# Altium schematic symbol library Schlib1.SchLib: 8 symbols
Pins are listed as number, name and electrical type; pins without a type are passive.

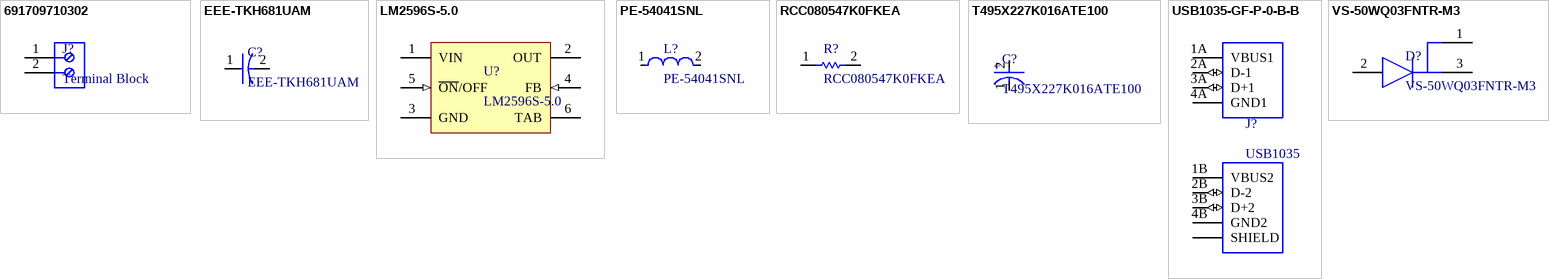
[diagram p0: symbols 691709710302 to VS-50WQ03FNTR-M3]

## 691709710302
designator J?, comment Terminal Block
Conn Terminal Block F 2 POS 5mm Solder RA SMD 6A T/R; Manufacturer: Wurth Electronics Midcom; Manufacturer Part Number: 691709710302; Plating: Steel; Voltage Rating: 300V; Number of Levels: 1; Number of Positions Per Level: 2; Connector Type: Screw; Wire Gauge (Max): 30AWG; Wire Gauge (Min): 14AWG; Pitch: 0.197inch; Supplier 1: Digi-Key; RoHS: Yes; Category: Terminal Blocks; Stock 1: 1256; Pricing 1: 1=2.89000, 10=2.56200, 50=2.41200, 100=2.26000 (USD); Mount: Surface Mount; Color: Black; Contact Plating: Tin; Housing Material: Nylon; Min Operating Temperature: -40°C; Max Operating Temperature: 115°C; Package Quantity: 1; Packaging: Tape and Reel; Current Rating: 6A; Current: 6A; Voltage: 300V; Termination: Screw; Number of Positions: 2; Number of Contacts: 2; Wire/Cable Gauge: 30AWG; REACH SVHC: Unknown; Flammability Rating: UL94 V-0; RoHS Compliant: Yes; ComponentLink1URL: http://www.mouser.com/ds/2/445/6917097103xx-271684.pdf?src-supplier=Mouser; ComponentLink1Description: http://www.mouser.com/ds/2/445/6917097103xx-271684.pdf?src-supplier=Mouser; ComponentLink2URL: http://katalog.we-online.de/em/datasheet/6917097103xx.pdf?src-supplier=Digi-Key; ComponentLink2Description: http://katalog.we-online.de/em/datasheet/6917097103xx.pdf?src-supplier=Digi-Key; ComponentLink3URL: https://katalog.we-online.de/em/datasheet/6917097103xx.pdf?src-supplier=Digi-Key; ComponentLink3Description: https://katalog.we-online.de/em/datasheet/6917097103xx.pdf?src-supplier=Digi-Key; ComponentLink4URL: http://www.farnell.com/cad/1804164.pdf?src-supplier=Element14; ComponentLink4Description: http://www.farnell.com/cad/1804164.pdf?src-supplier=Element14; Supplier Part Number 1: 1297-1108-1-ND
footprint Terminal Block
pins: 1, 2

## EEE-TKH681UAM
designator C?
Cap Aluminum Lytic 680uF 50V 20%( 16 X 16.5mm) SMD 0.15 Ohm 900mA 2000h 125C Automotive T/R; Manufacturer: Panasonic; ESR (Equivalent Series Resistance): 150mR; Life (Hours): 2000Hour; Leakage Current: 340uA; Polarity: Polar; Lead Diameter: 1.2mm; Manufacturer Part Number: EEE-TKH681UAM; RoHS: Yes; Category: Aluminum Electrolytic Capacitors; Pricing 1: 1=3.03000, 10=2.44800, 50=2.13660 (USD); Mount: Surface Mount; Case/Package: SMD/SMT; Number of Pins: 16; Min Operating Temperature: -40°C; Max Operating Temperature: 125°C; Capacitance: 680uF; Voltage Rating: 50V; Tolerance: 20%; Ripple Current: 900mA; Packaging: Tape and Reel; Package Quantity: 125; Ripple Current (AC): 900mA; Voltage Rating (DC): 50V; Termination: SMD/SMT; Voltage: 50V; Series: TK; Construction: Cylindrical; Diameter: 16mm; Length: 16.5mm; Height: 16.5mm; Lead Pitch: 6.7mm; Height - Seated (Max): 0.65inch; REACH SVHC: No SVHC; RoHS Compliant: Yes; ComponentLink1URL: https://datasheet.ciiva.com/11777/0900766b8102e63d-11777129.pdf?src-supplier=RSComponents; ComponentLink1Description: https://datasheet.ciiva.com/11777/0900766b8102e63d-11777129.pdf?src-supplier=RSComponents; ComponentLink2URL: https://datasheet.ciiva.com/43461/1843634-43461190.pdf?src-supplier=Farnell; ComponentLink2Description: https://datasheet.ciiva.com/43461/1843634-43461190.pdf?src-supplier=Farnell; ComponentLink3URL: https://datasheet.ciiva.com/46438/1843634-46438041.pdf?src-supplier=Element14; ComponentLink3Description: https://datasheet.ciiva.com/46438/1843634-46438041.pdf?src-supplier=Element14; ComponentLink4URL: https://datasheet.ciiva.com/24036/aba0000ce121-470559-24036796.pdf?src-supplier=Mouser; ComponentLink4Description: https://datasheet.ciiva.com/24036/aba0000ce121-470559-24036796.pdf?src-supplier=Mouser; Supplier 1: Digi-Key; Supplier Part Number 1: PCE4901DKR-ND
footprint EEE-TKH681UAM
pins: 1, 2

## LM2596S-5.0
designator U?
SIMPLE SWITCHER® 4.5V to 40V, 3A Low Component Count Step-Down Regulator 5-DDPAK/TO-263; Manufacturer: TI National Semiconductor; Output Voltage: 5V; Number of Outputs: 1; Efficiency: 80%; Switching Frequency: 173kHz; Quiescent Current: 5mA; Output Type: Fixed; Synchronous Rectifier: No; Output Configuration: Positive; Manufacturer Part Number: LM2596S-5.0; RoHS: No; Category: Voltage Regulators - Switching; Stock 1: 935; Pricing 1: 1=9.62000, 10=8.68800, 25=8.28360, 100=7.19250, 250=6.86924, 500=6.67100 (USD); Mount: Surface Mount; Case/Package: TO-263-5; Number of Pins: 5; Min Operating Temperature: -40°C; Max Operating Temperature: 125°C; Max Input Voltage: 40V; Output Current: 3A; Min Input Voltage: 4.5V; Packaging: Rail/Tube; Max Output Current: 3A; Operating Supply Voltage: 40V; Series: SIMPLE SWITCHER®; Package Quantity: 45; Nominal Output Voltage: 5V; Min Output Voltage: 5V; Radiation Hardening: No; REACH SVHC: No SVHC; Lead Free: Contains Lead; RoHS Compliant: No; ComponentLink1URL: https://datasheet.ciiva.com/26897/lm2596s-5-0-26897357.pdf?src-supplier=IIIC; ComponentLink1Description: https://datasheet.ciiva.com/26897/lm2596s-5-0-26897357.pdf?src-supplier=IIIC; ComponentLink2URL: https://datasheet.ciiva.com/15223/getdatasheetpartid-113337-15223053.pdf?src-supplier=Verical; ComponentLink2Description: https://datasheet.ciiva.com/15223/getdatasheetpartid-113337-15223053.pdf?src-supplier=Verical; ComponentLink3URL: https://datasheet.ciiva.com/14303/lm2596-14303582.pdf?src-supplier=Avnet; ComponentLink3Description: https://datasheet.ciiva.com/14303/lm2596-14303582.pdf?src-supplier=Avnet; Supplier 1: Digi-Key; Supplier Part Number 1: LM2596S-5.0-ND
footprint LM2596S-5.0
pins: 1 VIN (power), 2 OUT (power), 3 GND (power), 4 FB (in), 5 ~{ON}/OFF (in), 6 TAB (power)

## PE-54041SNL
designator L?
PE-5XXXX SMT Toroid Inductor series for National 150kHz Simple Switcher, Up To 4.5A; Manufacturer: Pulse; Tolerance: 20%; Inductance: 25uH; Max DC Current: 3A; Shielding: Unshielded; DC Resistance (DCR): 40mR; Supplier 1: Digi-Key; Manufacturer Part Number: PE-54041SNL; RoHS: Yes; Category: Fixed Inductors; Stock 1: 1837; Pricing 1: 1=3.06000, 10=2.80500, 25=2.55040, 50=2.14220, 100=1.83620, 250=1.73416, 500=1.63216, 1000=1.53015, 2500=1.47914 (USD); Mount: Surface Mount; Case/Package: SMD/SMT; Min Operating Temperature: -40°C; Max Operating Temperature: 130°C; Packaging: Bulk; Package Quantity: 30; Current Rating: 3A; Termination: SMD/SMT; DC Current: 3A; Series: LCI; Length: 17.78mm; Width: 0.67inch; Height: 0.39inch; Depth: 17.02mm; Radiation Hardening: No; Military Standard: Not; RoHS Compliant: Yes; Lead Free: Lead Free; ComponentLink1URL: http://components.arrow.com/part/dataview/42118542S8144333N6149?src-supplier=Arrow+Electronics; ComponentLink1Description: http://components.arrow.com/part/dataview/42118542S8144333N6149?src-supplier=Arrow+Electronics; ComponentLink2URL: http://components.arrow.com/part/dataview/0323_01095901?src-supplier=Arrow+Europe; ComponentLink2Description: http://components.arrow.com/part/dataview/0323_01095901?src-supplier=Arrow+Europe; ComponentLink3URL: http://www.mouser.com/ds/2/336/-268328.pdf?src-supplier=Mouser; ComponentLink3Description: http://www.mouser.com/ds/2/336/-268328.pdf?src-supplier=Mouser; ComponentLink4URL: http://productfinder.pulseeng.com/products/datasheets/SPM2007_47.pdf?src-supplier=Avnet; ComponentLink4Description: http://productfinder.pulseeng.com/products/datasheets/SPM2007_47.pdf?src-supplier=Avnet; ComponentLink5URL: https://www.verical.com/server-webapp/html/getDatasheet?partID=180366&src-supplier=Verical; ComponentLink5Description: https://www.verical.com/server-webapp/html/getDatasheet?partID=180366&src-supplier=Verical; ComponentLink6URL: http://ww2.pulseeng.com/products/datasheets/SPM2007_47.pdf?src-supplier=Avnet+Europe; ComponentLink6Description: http://ww2.pulseeng.com/products/datasheets/SPM2007_47.pdf?src-supplier=Avnet+Europe; ComponentLink7URL: http://productfinder.pulseeng.com/products/datasheets/SPM2007_47.pdf?src-supplier=Digi-Key; ComponentLink7Description: http://productfinder.pulseeng.com/products/datasheets/SPM2007_47.pdf?src-supplier=Digi-Key; Supplier Part Number 1: 553-1424-ND
footprint PE-54041SNL (Precision Wire Wound Inductor, 2-Leads, Body 17.50x17.50mm, IPC Medium Density)
pins: 1, 2

## RCC080547K0FKEA
designator R?
RCC0805 100 47K 1% ET1 E3; Manufacturer: Vishay Dale; Supplier 1: Digi-Key; Manufacturer Part Number: RCC080547K0FKEA; RoHS: Yes; Category: Chip SMD Resistors; Stock 1: 8153; Pricing 1: 1=0.19000, 10=0.16100, 100=0.06280, 1000=0.02629, 2500=0.02410 (USD); Supplier Part Number 1: 541-RCC080547K0FKEACT-ND
footprint RCC080547K0FKEA (Chip Resistor, 2-Leads, Body 2.00x1.25mm, IPC Medium Density)
pins: 1, 2

## T495X227K016ATE100
designator C?
220uF Solid MnO2 Tantalum Electrolytic Capacitor; 16 V dc +/-10%; T495 Series; Manufacturer: KEMET; Tolerance: 10%; ESR (Equivalent Series Resistance): 100mR; Voltage Rating: 16V; Leakage Current: 35.2uA; Polarity: Polar; Dissipation Factor: 8%; Life (Hours): 2000Hour; Manufacturer Part Number: T495X227K016ATE100; RoHS: Yes; Category: Tantalum Capacitors; Stock 1: 20691; Pricing 1: 500=1.88794 (USD); Mount: Surface Mount,PCB; Case/Package: 2917; Case Code (Metric): 7343; Case Code (Imperial): 2917; Dielectric Material: Tantalum; Min Operating Temperature: -55°C; Max Operating Temperature: 125°C; Capacitance: 220uF; Packaging: Tape and Reel; Termination: SMD/SMT; Voltage Rating (DC): 16V; Series: T495; Package Quantity: 500; Voltage: 16V; Features: General Purpose; Construction: Flat; Length: 7.3mm; Width: 0.169inch; Height: 4mm; Depth: 4.3mm; Height - Seated (Max): 0.169inch; Lead Pitch: 3.8mm; Radiation Hardening: No; REACH SVHC: No SVHC; Lead Free: Lead Free; RoHS Compliant: Yes; ComponentLink1URL: https://datasheet.ciiva.com/46391/1881875-46391927.pdf?src-supplier=Element14; ComponentLink1Description: https://datasheet.ciiva.com/46391/1881875-46391927.pdf?src-supplier=Element14; ComponentLink2URL: https://datasheet.ciiva.com/14589/70095916-14589262.pdf?src-supplier=Allied+Electronics; ComponentLink2Description: https://datasheet.ciiva.com/14589/70095916-14589262.pdf?src-supplier=Allied+Electronics; ComponentLink3URL: https://datasheet.ciiva.com/46445/1818808-46445950.pdf?src-supplier=Element14; ComponentLink3Description: https://datasheet.ciiva.com/46445/1818808-46445950.pdf?src-supplier=Element14; Supplier 1: Digi-Key; Supplier Part Number 1: 399-10409-2-ND
footprint T495X227K016ATE100
pins: 1 C, 2 A
text: +

## USB1035-GF-P-0-B-B
designator J?, comment USB1035
USB1035 Series 8 Position Dual Port Through Hole USB; Manufacturer: Global Connector Technology; Manufacturer Part Number: USB1035-GF-P-0-B-B; Supplier 1: Digi-Key; RoHS: Yes; Category: USB Connectors; Contact Material: Brass; Contact Plating: Gold; Orientation: Right Angle; Connector Type: USB; RoHS Compliant: Yes; Supplier Part Number 1: 2073-USB1035-GF-P-0-B-B-ND
footprint USB1035
pins: 1A VBUS1 (power), 1B VBUS2 (power), 2A D-1 (io), 2B D-2 (io), 3A D+1 (io), 3B D+2 (io), 4A GND1 (power), 4B GND2 (power), 9 SHIELD (power), 10 SHIELD (power), 11 SHIELD (power), 12 SHIELD (power)

## VS-50WQ03FNTR-M3
designator D?
Rectifier Diode Schottky 30V 5.5A 3-Pin(2+Tab) DPAK T/R; Manufacturer: Vishay Semiconductors; Forward Voltage: 530mV; Element Configuration: Common Anode; Max Reverse Current: 3mA; Peak Non-Repetitive Surge Current: 320A; Supplier 1: Digi-Key; Manufacturer Part Number: VS-50WQ03FNTR-M3; RoHS: Yes; Category: Rectifier Diodes; Stock 1: 4025; Pricing 1: 1=0.81000, 10=0.71000, 100=0.54410, 500=0.43010, 1000=0.34408 (USD); Mount: Surface Mount; Case/Package: TO-252AA; Number of Pins: 3; Min Operating Temperature: -40°C; Max Operating Temperature: 150°C; Packaging: Tape and Reel; Forward Current: 5.5A; Average Rectified Current: 5.5A; Max Repetitive Reverse Voltage (Vrrm): 30V; Max Forward Surge Current (Ifsm): 320A; Max Reverse Voltage (DC): 30V; Series: -; REACH SVHC: No SVHC; RoHS Compliant: Yes; ComponentLink1URL: http://www.farnell.com/datasheets/2148614.pdf?src-supplier=Farnell; ComponentLink1Description: http://www.farnell.com/datasheets/2148614.pdf?src-supplier=Farnell; ComponentLink2URL: http://components.arrow.com/part/dataview/0323_03485198?src-supplier=Arrow+Europe; ComponentLink2Description: http://components.arrow.com/part/dataview/0323_03485198?src-supplier=Arrow+Europe; ComponentLink3URL: http://www.mouser.com/ds/2/427/50wq03fn-1074205.pdf?src-supplier=Mouser; ComponentLink3Description: http://www.mouser.com/ds/2/427/50wq03fn-1074205.pdf?src-supplier=Mouser; ComponentLink4URL: http://www.farnell.com/datasheets/2148614.pdf?src-supplier=Element14; ComponentLink4Description: http://www.farnell.com/datasheets/2148614.pdf?src-supplier=Element14; ComponentLink5URL: http://www.vishay.com/docs/93311/50wq03fn.pdf?src-supplier=Digi-Key; ComponentLink5Description: http://www.vishay.com/docs/93311/50wq03fn.pdf?src-supplier=Digi-Key; ComponentLink6URL: http://www.vishay.com/docs/93311/50wq03fn.pdf?src-supplier=Avnet; ComponentLink6Description: http://www.vishay.com/docs/93311/50wq03fn.pdf?src-supplier=Avnet; Supplier Part Number 1: 112-VS-50WQ03FNTR-M3CT-ND
footprint VS-50WQ03FNTR-M3 (D-PAK, 3-Pads, Body 6.25x6.76mm (max), IPC Medium Density)
pins: 1 C, 2 A, 3 C